# EAGLE library part D15S24A4GV00LF (library Connector_D-Sub)
D-SUB, 15POS, RCPT, VERT SLDR Datasheet <http://www.amphenol-icc.com/media/wysiwyg/files/drawing/c01-8646-0815.pdf>
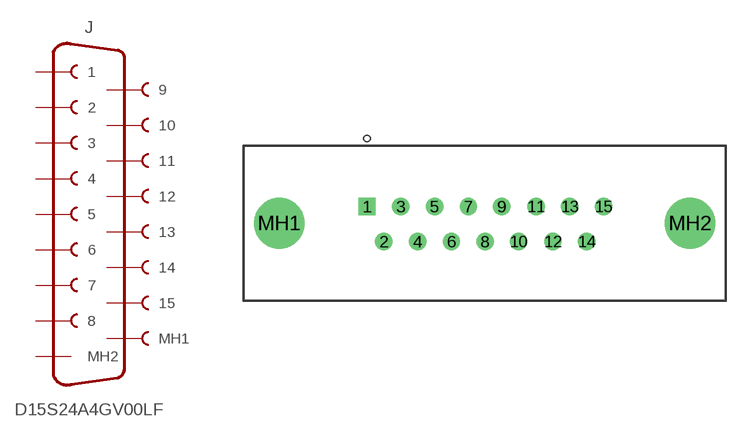
[diagram p5: symbol with the pads of D15S24A4GV00LF; footprint D15S24A4GV00LF]

Designator prefix J

## D15S24A4GV00LF (CATEGORY: Connector; GENDER: Female; MANUFACTURER: Amphenol FCI; MPN: D15S24A4GV00LF; OPERATING_TEMPERATURE: - 55 C to + 125 C; PART_STATUS: ACTIVE; ROHS_COMPLIANT: COMPLIANT; SERIES: Delta D; SUB_CATEGORY: D-SUB; TYPE: Vertical; VALUE: D-SUB-RCPT-15P)  [D15S24A4GV00LF]
1  1  pas
2  2  pas
3  3  pas
4  4  pas
5  5  pas
6  6  pas
7  7  pas
8  8  pas
9  9  pas
10  10  pas
11  11  pas
12  12  pas
13  13  pas
14  14  pas
15  15  pas
MH1  MH1  sup
MH2  MH2  sup

## Footprint D15S24A4GV00LF (pad centres in mm)
D15S24A4GV00LF
drill 0.9 square: 1 0,0
drill 0.9: 2 1.37,-2.84; 3 2.74,0; 4 4.11,-2.84; 5 5.48,0; 6 6.85,-2.84; 7 8.22,0; 8 9.59,-2.84; 9 10.91,0; 10 12.287,-2.84; 11 13.7,0; 12 15.07,-2.84; 13 16.44,0; 14 17.81,-2.84; 15 19.18,0
drill 3.1: MH1 -7.12,-1.35; MH2 26.2,-1.35